# EAGLE library part W25Q32BV (library Custom_old)
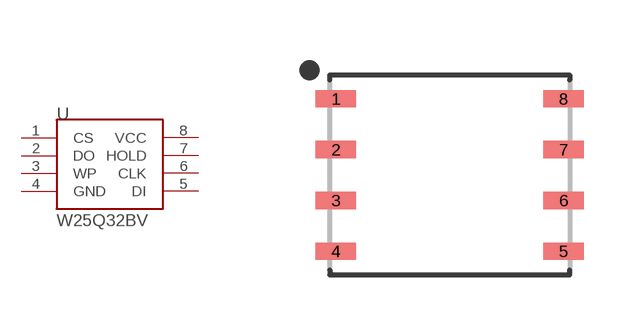
[diagram p27: symbol with the pads of SON127P600X500X75-8; footprint SON127P600X500X75-8]

Designator prefix -

## W25Q32BVWSON8_6X5  [SON127P600X500X75-8]
1  CS
2  DO
3  WP
4  GND
5  DI
6  CLK
7  HOLD
8  VCC

## Footprint SON127P600X500X75-8 (pad centres in mm)
8-SON, 1.27 mm pitch, 5.00 X 6.00 X 0.75 mm body 8-pin SON package with 1.27 mm pitch with body size 5.00 X 6.00 X 0.75 mm
smd 1.012 x 0.432: 1 -2.85,1.905; 2 -2.85,0.635; 3 -2.85,-0.635; 4 -2.85,-1.905; 5 2.85,-1.905; 6 2.85,-0.635; 7 2.85,0.635; 8 2.85,1.905